# Altium schematic symbol library discrete.SchLib: 2 symbols
Pins are listed as number, name and electrical type; pins without a type are passive.

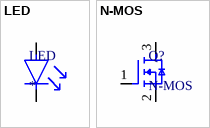
[diagram p0: symbols LED to N-MOS]

## LED
designator LED
pins: anode, cathode

## N-MOS
designator Q?
pins: 1 G, 2 S, 3 D